# Altium footprint library TE-1-1734592-0 with LCD.PcbLib: 1 footprints
Each footprint in its own frame and in the unit in brackets; x right, y up, seen from the top. Pads: shape width x height; smd on the part's side, far side on the other; paste and mask are expansions set on the pad; w line width, h text height; cw(c..) or ccw(c..) is an arc to the next point about the centre after c.
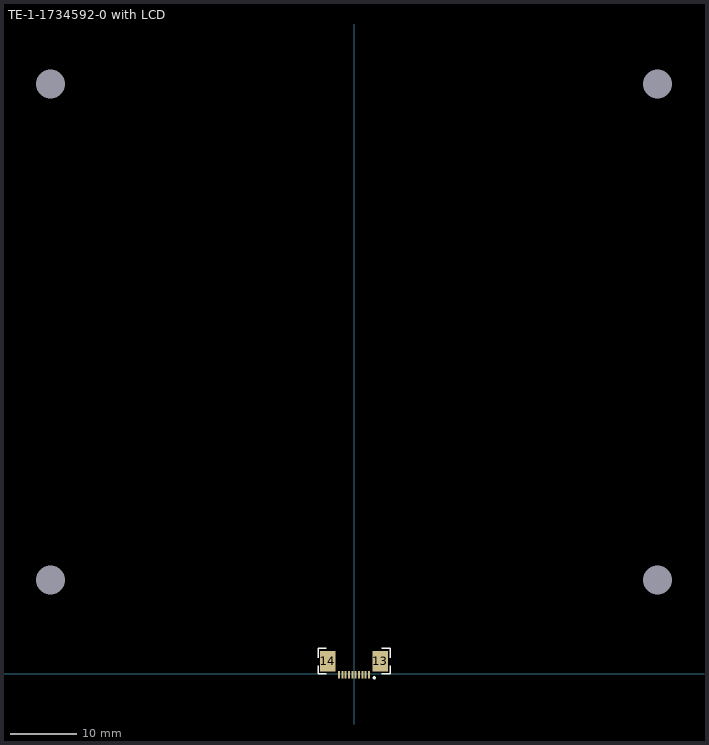
[diagram p0: the footprint, top view; thin cyan lines are the x and y axes]

## TE-1-1734592-0 with LCD [mm]
pads (16):
  round 0.508 hole 4.369 unplated: 0(-45.517,13.995) 0(-45.517,88.392) 0(45.517,13.995) 0(45.517,88.392)
  rect 0.3x1.1 smd mask+0.051: 1(2.25,-0.189) 2(1.75,-0.189) 3(1.25,-0.189) 4(0.75,-0.189) 5(0.25,-0.189) 6(-0.25,-0.189) 7(-0.75,-0.189) 8(-1.25,-0.189) 9(-1.75,-0.189) 10(-2.25,-0.189)
  rect 2.3x3.1 smd: 13(3.912,1.854) 14(-3.928,1.854)
Top Overlay:
  circle w0.25: c3.037,-0.646 r0.125
  lines w0.2: -5.388,1.154 -5.388,-0.046 -4.138,-0.046 ; -5.388,2.373 -5.388,3.754 -4.138,3.754 ; 4.162,-0.046 5.412,-0.046 5.412,1.154 ; 4.162,3.754 5.412,3.754 5.412,2.373
3D body: height 7.39, standoff -1.94, extent -48.652,-0.432 48.703,90.384